# Altium schematic symbol library HP02S0300WI.SchLib: 1 symbol
Pins are listed as number, name and electrical type; pins without a type are passive.

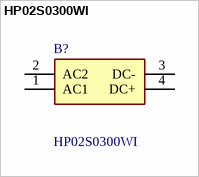
[diagram p0: symbol HP02S0300WI]

## HP02S0300WI
designator B?
Enclosed AC DC Converters 1 Output 3.3V 600mA 85 ~ 305 VAC, 100 ~ 430 VDC Input; Manufacturer_Name: Zettler Group; Geometry.Height: 15.5mm; Manufacturer_Part_Number: HP02S0300WI; Mouser Part Number: *; Mouser Price/Stock: *; Arrow Part Number: *; Arrow Price/Stock: *; Datasheet Link: https://www.zettlermagnetics.com/pdfs/HP02SXX00WI.pdf
footprint HP02S0300WI
pins: 1 AC1, 2 AC2, 3 DC-, 4 DC+